# EAGLE library part ST1S14PHR (library Parte nacha)
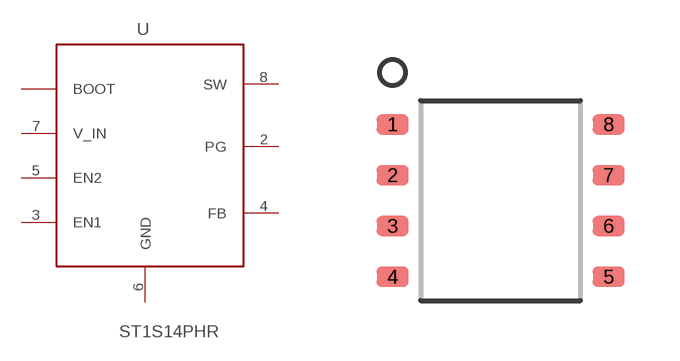
[diagram p0: symbol with the pads of 8-SOIC; footprint 8-SOIC]

Designator prefix U

## ST1S14PHR  [8-SOIC]
1  BOOT  pas
2  PG  pas
3  EN1  pas
4  FB  pas
5  EN2  pas
6  GND  pwr
7  V_IN  pas
8  SW  pas

## Footprint 8-SOIC (pad centres in mm)
smd 0.8 x 0.51: 1 -2.7,1.905; 2 -2.7,0.635; 3 -2.7,-0.635; 4 -2.7,-1.905; 5 2.7,-1.905; 6 2.7,-0.635; 7 2.7,0.635; 8 2.7,1.905